# Altium footprint library HV_Indicator.PcbLib: 3 footprints
Each footprint in its own frame and in the unit in brackets; x right, y up, seen from the top. Pads: shape width x height; smd on the part's side, far side on the other; paste and mask are expansions set on the pad; w line width, h text height; cw(c..) or ccw(c..) is an arc to the next point about the centre after c.
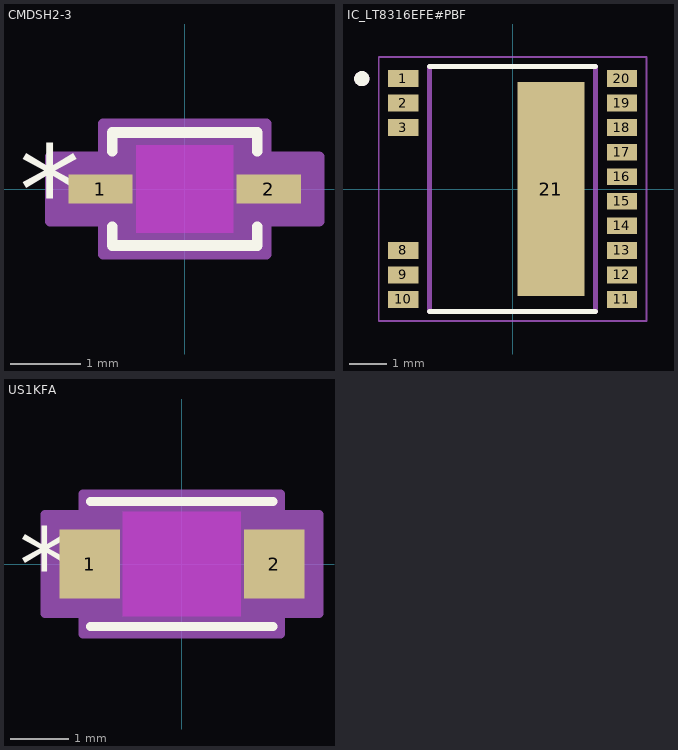
[diagram p0: the footprints below, top view; thin cyan lines are the x and y axes]

## CMDSH2-3 [mil]
pads (2):
  rect 36x16 smd paste+0 mask+0: 1(-47,0) 2(47,0)
Top Overlay:
  lines w6: -40.5,-21.1 -40.5,-31.5 40.5,-31.5 40.5,-21.1 ; -40.5,21.1 -40.5,31.5 40.5,31.5 40.5,21.1
  text "*" at -92.5,-25 h50
Keep-Out Layer:
  region: -27,-24.5 -27,24.5 27,24.5 27,-24.5
Mechanical 13:
  lines w1: -35.5,-13.25 -22.25,-26.5 ; -35.5,13.25 -22.25,26.5 ; -51,-7 -51,7 -35.5,7 -35.5,-7 -51,-7 ; -35.5,-26.5 35.5,-26.5 35.5,26.5 -35.5,26.5 -35.5,-26.5 ; 35.5,-7 35.5,7 51,7 51,-7 35.5,-7
  text "*" at -38,-25 h50
Mechanical 15:
  region: -45.5,-18 -75,-18 -75,18 -45.5,18 -45.5,36.5 45.5,36.5 45.5,18 75,18 75,-18 45.5,-18 45.5,-36.5 -45.5,-36.5
  lines w6: -75,-18 -75,18 -45.5,18 -45.5,36.5 45.5,36.5 45.5,18 75,18 75,-18 45.5,-18 45.5,-36.5 -45.5,-36.5 -45.5,-18 -75,-18
3D body "SDO_CMDSH2-3TRPBFREE_CNS.step": height 43.11, standoff 0, extent -50.98,-26.5 50.98,26.5

## IC_LT8316EFE#PBF [mm]
height 1.2
pads (17):
  rect 0.8x0.45 smd: 1(-2.9,2.925) 2(-2.9,2.275) 3(-2.9,1.625) 8(-2.9,-1.625) 9(-2.9,-2.275) 10(-2.9,-2.925) 11(2.9,-2.925) 12(2.9,-2.275) 13(2.9,-1.625) 14(2.9,-0.975) 15(2.9,-0.325) 16(2.9,0.325) 17(2.9,0.975) 18(2.9,1.625) 19(2.9,2.275) 20(2.9,2.925)
  rect 1.78x5.68 smd paste-4: 21(1.016,0)
Top Overlay:
  circle w0.2: c-4,2.925 r0.1
  lines w0.127: -2.2,-3.25 2.2,-3.25 ; -2.2,3.25 2.2,3.25
Top Paste:
  region: 0.895,-2.535 0.045,-2.535 0.045,-0.155 0.895,-0.155
  region: 0.895,0.155 0.045,0.155 0.045,2.535 0.895,2.535
Mechanical 13:
  circle w0.2: c-4,2.925 r0.1
  lines w0.127: -2.2,-3.25 2.2,-3.25 2.2,3.25 -2.2,3.25 -2.2,-3.25
Mechanical 15:
  lines w0.05: -3.55,-3.5 3.55,-3.5 3.55,3.5 -3.55,3.5 -3.55,-3.5
3D body "step_temp.STEP": height 1.19, standoff -0.01, extent -3.2,-3.25 3.2,3.25

## US1KFA [mil]
pads (2):
  rect 41x47 smd paste+0 mask+0: 1(-62.5,0) 2(62.5,0)
Top Layer keep-out:
  region: -40,-35.5 -40,35.5 40,35.5 40,-35.5
Top Overlay:
  lines w6: -62,-42.5 62,-42.5 ; -62,42.5 62,42.5
  text "*" at -110.5,-25 h50
Keep-Out Layer:
  region: -40,-35.5 -40,35.5 40,35.5 40,-35.5
Mechanical 13:
  lines w1: -57,-18.75 -38.25,-37.5 ; -57,18.75 -38.25,37.5 ; -75,-23.5 -75,23.5 -57,23.5 -57,-23.5 -75,-23.5 ; -57,-37.5 57,-37.5 57,37.5 -57,37.5 -57,-37.5 ; 57,-23.5 57,23.5 75,23.5 75,-23.5 57,-23.5
  text "*" at -59.5,-25 h50
Mechanical 15:
  region: -67,-33.5 -93,-33.5 -93,33.5 -67,33.5 -67,47.5 67,47.5 67,33.5 93,33.5 93,-33.5 67,-33.5 67,-47.5 -67,-47.5
  lines w6: -93,-33.5 -93,33.5 -67,33.5 -67,47.5 67,47.5 67,33.5 93,33.5 93,-33.5 67,-33.5 67,-47.5 -67,-47.5 -67,-33.5 -93,-33.5
3D body "SOD-123FA_ONS.step": height 46.26, standoff 0, extent -75,-37.48 75,37.48